# Altium schematic symbol library SS14.SchLib: 1 symbol
Pins are listed as number, name and electrical type; pins without a type are passive.

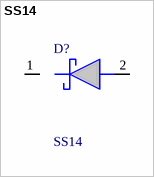
[diagram p0: symbol SS14]

## SS14
designator D?
1.0 A Schottky Barrier Rectifiers; Manufacturer_Name: onsemi; Geometry.Height: 2.7mm; Mouser Part Number: 512-SS14; Mouser Price/Stock: https://www.mouser.co.uk/ProductDetail/onsemi-Fairchild/SS14?qs=mVVXn4M53U%252BvrBaFv5vr4w%3D%3D; Manufacturer_Part_Number: SS14; Datasheet Link: http://www.onsemi.com/pub/Collateral/SS19-D.pdf
footprint DIOM5227X270N
pins: 1 K, 2 A